# Altium footprint library SnapEDApcb.PcbLib: 1 footprints
Each footprint in its own frame and in the unit in brackets; x right, y up, seen from the top. Pads: shape width x height; smd on the part's side, far side on the other; paste and mask are expansions set on the pad; w line width, h text height; cw(c..) or ccw(c..) is an arc to the next point about the centre after c.
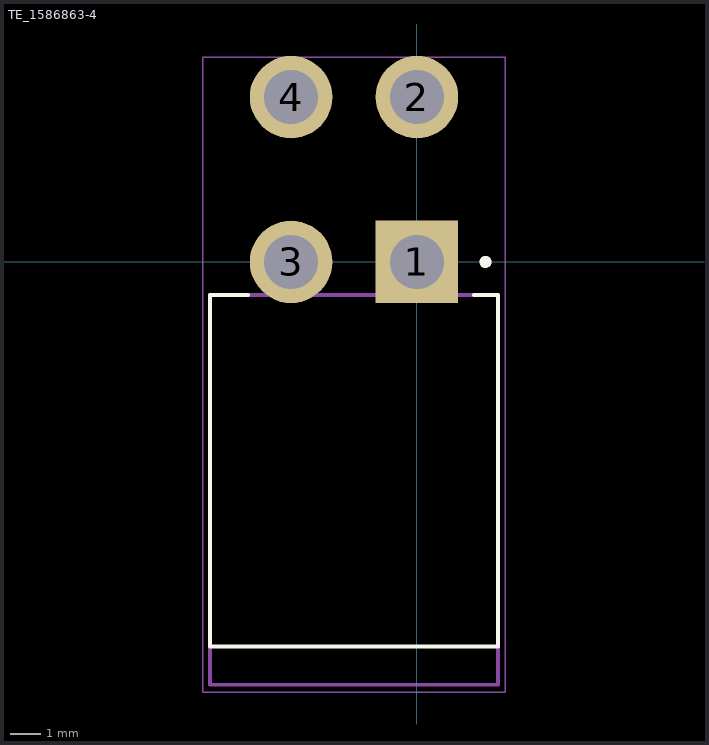
[diagram p0: the footprint, top view; thin cyan lines are the x and y axes]

## TE_1586863-4 [mm]
pads (4):
  rect 2.75x2.75 hole 1.8: 1(0,0)
  round 2.75 hole 1.8: 2(0,5.5) 3(-4.2,0) 4(-4.2,5.5)
Top Overlay:
  circle w0.2: c2.286,0 r0.1
  lines w0.127: -5.631,-1.1 -6.9,-1.1 -6.9,-12.827 2.7,-12.827 2.7,-1.1 1.905,-1.1
Mechanical 13:
  circle w0.2: c2.286,0 r0.1
  lines w0.127: -6.9,-14.1 2.7,-14.1 ; -6.9,-14.1 2.7,-14.1 ; -6.9,-14.1 -6.9,-1.1 2.7,-1.1 2.7,-14.1
Mechanical 15:
  lines w0.05: -7.15,-14.35 2.95,-14.35 2.95,6.825 -7.15,6.825 -7.15,-14.35
3D body "1586863-4.stp": height 11.25, standoff -3.55, extent -6.798,-14.132 3.302,6.004